# Altium schematic symbol library SP0503.Schlib: 1 symbol
Pins are listed as number, name and electrical type; pins without a type are passive.

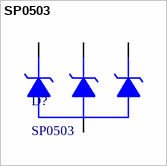
[diagram p0: symbol SP0503]

## SP0503
designator D?
pins: 1, 2, 3, 4